# Altium schematic symbol library LED_RGB.SchLib: 1 symbol
Pins are listed as number, name and electrical type; pins without a type are passive.

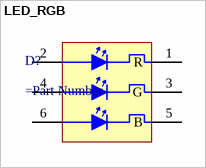
[diagram p0: symbol LED_RGB]

## LED_RGB
designator D?
=Description
pins: 1 R, 2 R, 3 G, 4 G, 5 B, 6 B